# Altium footprint library TPS62827ADMQR.PcbLib: 1 footprints
Each footprint in its own frame and in the unit in brackets; x right, y up, seen from the top. Pads: shape width x height; smd on the part's side, far side on the other; paste and mask are expansions set on the pad; w line width, h text height; cw(c..) or ccw(c..) is an arc to the next point about the centre after c.
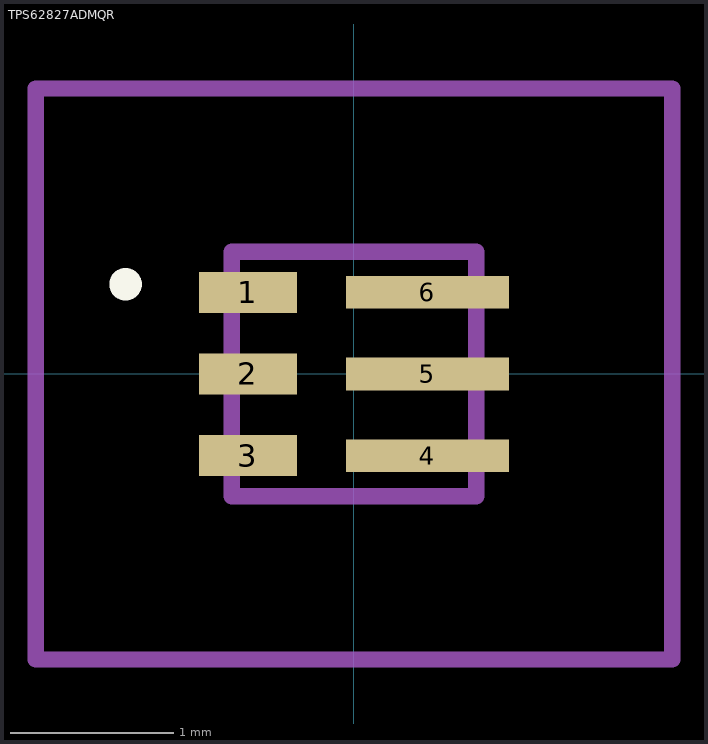
[diagram p0: the footprint, top view; thin cyan lines are the x and y axes]

## TPS62827ADMQR [mm]
pads (6):
  rect 0.6x0.25 smd: 1(-0.65,0.5) 2(-0.65,0) 3(-0.65,-0.5)
  rect 1x0.2 smd: 4(0.45,-0.5) 5(0.45,0) 6(0.45,0.5)
Top Overlay:
  lines w0.1: -1.4,0.5 cw(c-1.4,0.55) -1.4,0.6 ; -1.4,0.5 -1.4,0.5 ; -1.4,0.5 ccw(c-1.4,0.55) -1.4,0.6 ; -1.4,0.6 -1.4,0.6
Mechanical 15:
  lines w0.1: -0.75,-0.75 0.75,-0.75 0.75,0.75 -0.75,0.75 -0.75,-0.75
Mechanical 20:
  lines w0.1: -1.95,-1.75 1.95,-1.75 1.95,1.75 -1.95,1.75 -1.95,-1.75